# EAGLE library part ELMA_E37 (library library)
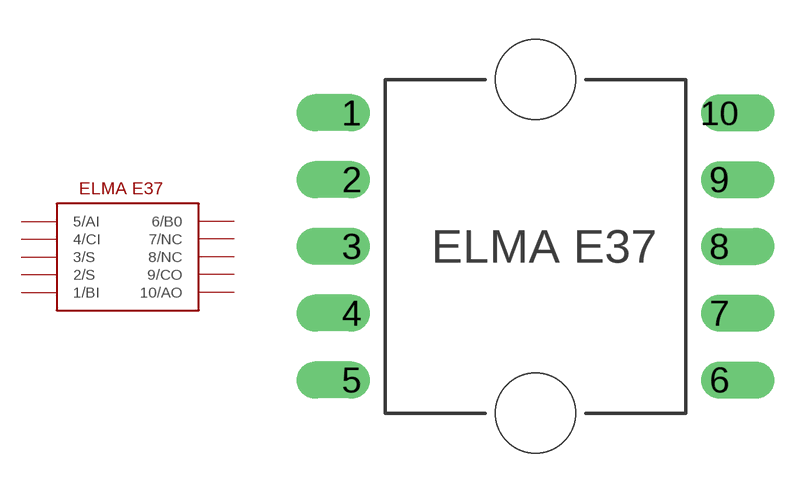
[diagram p2: symbol with the pads of ELMA_E37; footprint ELMA_E37]

Designator prefix -

## ELMA_E37  [ELMA_E37]
1  1/BI
2  2/S
3  3/S
4  4/CI
5  5/AI
6  6/B0
7  7/NC
8  8/NC
9  9/CO
10  10/AO

## Footprint ELMA_E37 (pad centres in mm)
drill 0.889 pad 1.27 offset: 1 0,0; 2 0,-2.54; 3 0,-5.08; 4 0,-7.62; 5 0,-10.16; 6 13.97,-10.16; 7 13.97,-7.62; 8 13.97,-5.08; 9 13.97,-2.54; 10 13.97,0
hole 3.048 at 6.985,1.27
hole 3.048 at 6.985,-11.43